# Altium integrated library Diode - Rectifier.IntLib: 777 symbols (part 4 of 12)
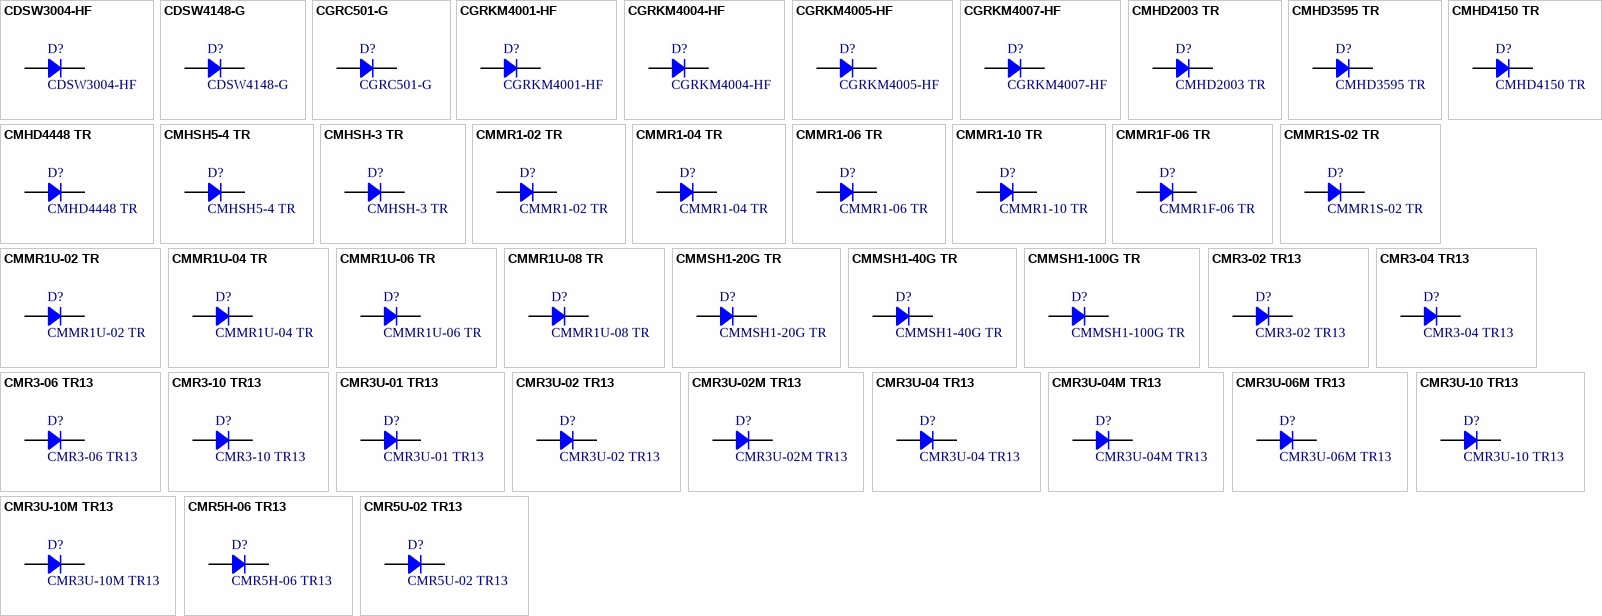
[diagram p22: symbols CDSW3004-HF to CMR5U-02 TR13]

## CMR3U-04M TR13
designator D?
DIODE GEN PURP 400V 3A SMC; Manufacturer: Central Semiconductor Corp; Type: Standard; Current Reverse Leakage @ Vr: 5uA @ 400V; Reverse Recovery Time (trr): 50ns; Voltage Forward (Vf): 1.25V @ 3A; Part Number: CMR3U-04M TR13; PartId: 27872; Supplier 1: Digi-Key; Supplier Part Number 1: CMR3U-04M TR13CT-ND; ComponentLink1Description: Datasheet; ComponentLink1URL: https://www.centralsemi.com/get_document.php?cmp=1&mergetype=pd&mergepath=pd&pdf_id=CMR3U-01M-10M.PDF; ComponentLink2Description: Digi-Key Listing; ComponentLink2URL: https://www.digikey.com/product-detail/en/central-semiconductor-corp/CMR3U-04M-TR13/CMR3U-04M-TR13CT-ND/5324535; Junction Operating Temperature: -65C ~ 175C; Price: 0.92; Device Package: DO-214AB, SMC; Voltage DC Reverse (Vr): 400V; Current Rectified: 3A
footprint ST DO214AB SMC
pins: 1, 2

## CMR3U-06M TR13
designator D?
DIODE GEN PURP 600V 3A SMC; Manufacturer: Central Semiconductor Corp; Type: Standard; Current Reverse Leakage @ Vr: 5uA @ 600V; Reverse Recovery Time (trr): 100ns; Voltage Forward (Vf): 1.4V @ 3A; Part Number: CMR3U-06M TR13; PartId: 27875; Supplier 1: Digi-Key; Supplier Part Number 1: CMR3U-06M TR13CT-ND; ComponentLink1Description: Datasheet; ComponentLink1URL: https://www.centralsemi.com/get_document.php?cmp=1&mergetype=pd&mergepath=pd&pdf_id=CMR3U-01M-10M.PDF; ComponentLink2Description: Digi-Key Listing; ComponentLink2URL: https://www.digikey.com/product-detail/en/central-semiconductor-corp/CMR3U-06M-TR13/CMR3U-06M-TR13CT-ND/5324536; Junction Operating Temperature: -65C ~ 175C; Price: 0.96; Device Package: DO-214AB, SMC; Voltage DC Reverse (Vr): 600V; Current Rectified: 3A
footprint ST DO214AB SMC
pins: 1, 2

## CMR3U-10 TR13
designator D?
DIODE GEN PURP 1000V 3A SMC; Manufacturer: Central Semiconductor Corp; Type: Standard; Current Reverse Leakage @ Vr: 5uA @ 1000V; Reverse Recovery Time (trr): 100ns; Voltage DC Reverse (Vr): 1000V (1kV); Voltage Forward (Vf): 1.7V @ 3A; Part Number: CMR3U-10 TR13; PartId: 27884; Supplier 1: Digi-Key; Supplier Part Number 1: CMR3U-10 TR13CT-ND; ComponentLink1Description: Datasheet; ComponentLink1URL: https://www.centralsemi.com/get_document.php?cmp=1&mergetype=pd&mergepath=pd&pdf_id=CMR3U-01.PDF; ComponentLink2Description: Digi-Key Listing; ComponentLink2URL: https://www.digikey.com/product-detail/en/central-semiconductor-corp/CMR3U-10-TR13/CMR3U-10-TR13CT-ND/5324537; Junction Operating Temperature: -65C ~ 175C; Price: 1.61; Device Package: DO-214AB, SMC; Current Rectified: 3A
footprint ST DO214AB SMC
pins: 1, 2

## CMR3U-10M TR13
designator D?
DIODE GEN PURP 1000V 3A SMC; Manufacturer: Central Semiconductor Corp; Type: Standard; Current Reverse Leakage @ Vr: 5uA @ 1000V; Reverse Recovery Time (trr): 100ns; Voltage DC Reverse (Vr): 1000V (1kV); Voltage Forward (Vf): 2V @ 3A; Part Number: CMR3U-10M TR13; PartId: 27888; Supplier 1: Digi-Key; Supplier Part Number 1: CMR3U-10M TR13CT-ND; ComponentLink1Description: Datasheet; ComponentLink1URL: https://www.centralsemi.com/get_document.php?cmp=1&mergetype=pd&mergepath=pd&pdf_id=CMR3U-01M-10M.PDF; ComponentLink2Description: Digi-Key Listing; ComponentLink2URL: https://www.digikey.com/product-detail/en/central-semiconductor-corp/CMR3U-10M-TR13/CMR3U-10M-TR13CT-ND/5324538; Junction Operating Temperature: -65C ~ 175C; Price: 1.93; Device Package: DO-214AB, SMC; Current Rectified: 3A
footprint ST DO214AB SMC
pins: 1, 2

## CMR5H-06 TR13
designator D?
DIODE HYPERFAST 600V 5A SMC; Manufacturer: Central Semiconductor Corp; Type: Standard; Current Reverse Leakage @ Vr: 1uA @ 600V; Reverse Recovery Time (trr): 22ns; Voltage Forward (Vf): 1.7V @ 5A; Part Number: CMR5H-06 TR13; PartId: 27877; Supplier 1: Digi-Key; Supplier Part Number 1: CMR5H-06 CT-ND; ComponentLink1Description: Datasheet; ComponentLink1URL: https://www.centralsemi.com/get_document.php?cmp=1&mergetype=pd&mergepath=pd&pdf_id=CMR5H-06.PDF; ComponentLink2Description: Digi-Key Listing; ComponentLink2URL: https://www.digikey.com/product-detail/en/central-semiconductor-corp/CMR5H-06-TR13/CMR5H-06-CT-ND/5018687; Junction Operating Temperature: -65C ~ 175C; Price: 1.03; Device Package: DO-214AB, SMC; Voltage DC Reverse (Vr): 600V; Current Rectified: 5A
footprint ST DO214AB SMC
pins: 1, 2

## CMR5U-02 TR13
designator D?
DIODE GEN PURP 600V 5A SMC; Manufacturer: Central Semiconductor Corp; Type: Standard; Current Reverse Leakage @ Vr: 1uA @ 600V; Reverse Recovery Time (trr): 22ns; Voltage Forward (Vf): 1.7V @ 5A; Part Number: CMR5U-02 TR13; PartId: 27881; Supplier 1: Digi-Key; Supplier Part Number 1: CMR5U-02 CT-ND; ComponentLink1Description: Datasheet; ComponentLink1URL: https://www.centralsemi.com/get_document.php?cmp=1&mergetype=pd&mergepath=pd&pdf_id=CMR5U-02-08.PDF; ComponentLink2Description: Digi-Key Listing; ComponentLink2URL: https://www.digikey.com/product-detail/en/central-semiconductor-corp/CMR5U-02-TR13/CMR5U-02-CT-ND/5018688; Junction Operating Temperature: -65C ~ 175C; Price: 1.15; Device Package: DO-214AB, SMC; Voltage DC Reverse (Vr): 600V; Current Rectified: 5A
footprint ST DO214AB SMC
pins: 1, 2

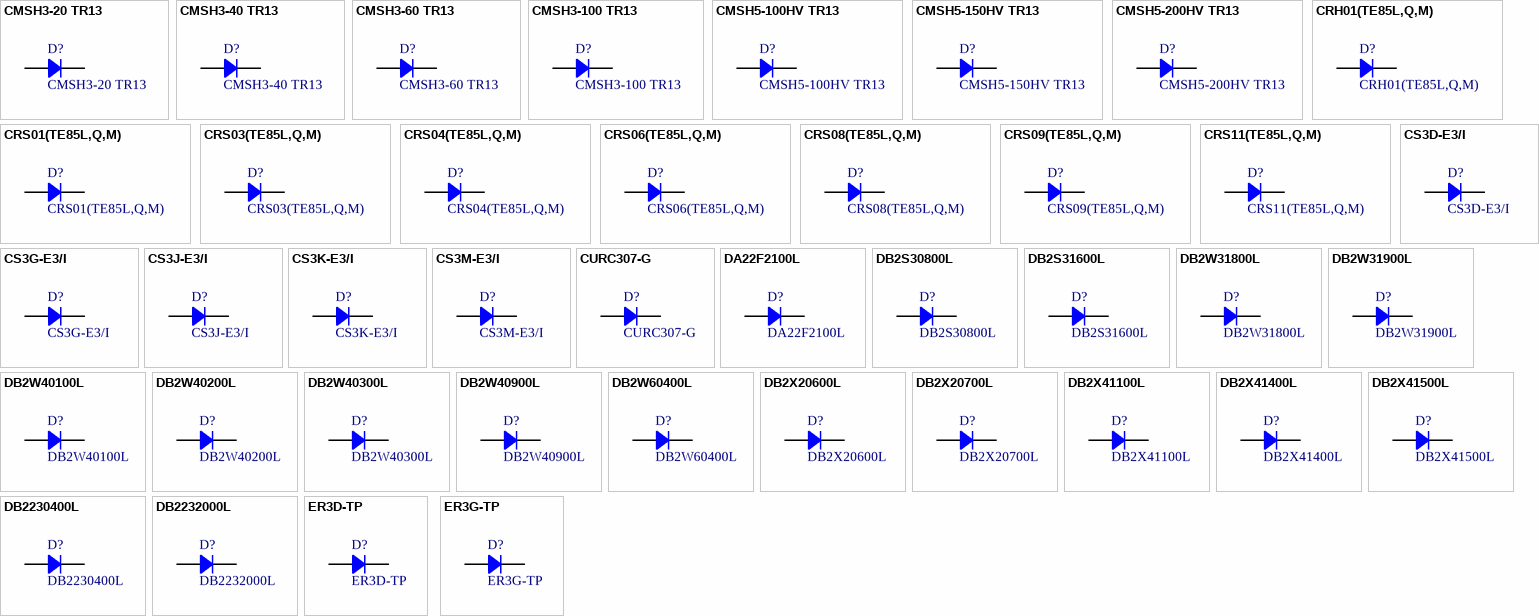
[diagram p5: symbols CMSH3-20 TR13 to ER3G-TP]

## CMSH3-20 TR13
designator D?
DIODE SCHOTTKY 20V 3A SMC; Manufacturer: Central Semiconductor Corp; Current Reverse Leakage @ Vr: 500uA @ 20V; Voltage Forward (Vf): 500mV @ 3A; Part Number: CMSH3-20 TR13; PartId: 27857; Supplier 1: Digi-Key; Supplier Part Number 1: CMSH3-20 TR13CT-ND; ComponentLink1Description: Datasheet; ComponentLink1URL: https://www.centralsemi.com/get_document.php?cmp=1&mergetype=pd&mergepath=pd&pdf_id=CMSH3-20.PDF; ComponentLink2Description: Digi-Key Listing; ComponentLink2URL: https://www.digikey.com/product-detail/en/central-semiconductor-corp/CMSH3-20-TR13/CMSH3-20-TR13CT-ND/5324550; Junction Operating Temperature: -65C ~ 150C; Price: 0.68; Type: Schottky; Device Package: DO-214AB, SMC; Voltage DC Reverse (Vr): 20V; Current Rectified: 3A
footprint ST DO214AB SMC
pins: 1, 2

## CMSH3-40 TR13
designator D?
DIODE SCHOTTKY 40V 3A SMC; Manufacturer: Central Semiconductor Corp; Current Reverse Leakage @ Vr: 500uA @ 40V; Voltage Forward (Vf): 500mV @ 3A; Part Number: CMSH3-40 TR13; PartId: 27790; Supplier 1: Digi-Key; Supplier Part Number 1: CMSH3-40 CT-ND; ComponentLink1Description: Datasheet; ComponentLink1URL: https://www.centralsemi.com/get_document.php?cmp=1&mergetype=pd&mergepath=pd&pdf_id=CMSH3-20.PDF; ComponentLink2Description: Digi-Key Listing; ComponentLink2URL: https://www.digikey.com/product-detail/en/central-semiconductor-corp/CMSH3-40-TR13/CMSH3-40-CT-ND/4807120; Junction Operating Temperature: -65C ~ 150C; Price: 1.02; Type: Schottky; Device Package: DO-214AB, SMC; Voltage DC Reverse (Vr): 40V; Current Rectified: 3A
footprint ST DO214AB SMC
pins: 1, 2

## CMSH3-60 TR13
designator D?
DIODE SCHOTTKY 60V 3A SMC; Manufacturer: Central Semiconductor Corp; Current Reverse Leakage @ Vr: 500uA @ 60V; Voltage Forward (Vf): 700mV @ 3A; Part Number: CMSH3-60 TR13; PartId: 27878; Supplier 1: Digi-Key; Supplier Part Number 1: CMSH3-60 TR13CT-ND; ComponentLink1Description: Datasheet; ComponentLink1URL: https://www.centralsemi.com/get_document.php?cmp=1&mergetype=pd&mergepath=pd&pdf_id=CMSH3-20.PDF; ComponentLink2Description: Digi-Key Listing; ComponentLink2URL: https://www.digikey.com/product-detail/en/central-semiconductor-corp/CMSH3-60-TR13/CMSH3-60-TR13CT-ND/5324553; Junction Operating Temperature: -65C ~ 150C; Price: 1.07; Type: Schottky; Device Package: DO-214AB, SMC; Voltage DC Reverse (Vr): 60V; Current Rectified: 3A
footprint ST DO214AB SMC
pins: 1, 2

## CMSH3-100 TR13
designator D?
DIODE SCHOTTKY 100V 3A SMC; Manufacturer: Central Semiconductor Corp; Current Reverse Leakage @ Vr: 500uA @ 100V; Voltage Forward (Vf): 800mV @ 2A; Part Number: CMSH3-100 TR13; PartId: 27799; Supplier 1: Digi-Key; Supplier Part Number 1: CMSH3-100 TR13CT-ND; ComponentLink1Description: Datasheet; ComponentLink1URL: https://www.centralsemi.com/get_document.php?cmp=1&mergetype=pd&mergepath=pd&pdf_id=CMSH3-20.PDF; ComponentLink2Description: Digi-Key Listing; ComponentLink2URL: https://www.digikey.com/product-detail/en/central-semiconductor-corp/CMSH3-100-TR13/CMSH3-100-TR13CT-ND/5324548; Junction Operating Temperature: -65C ~ 150C; Price: 1.2; Type: Schottky; Device Package: DO-214AB, SMC; Voltage DC Reverse (Vr): 100V; Current Rectified: 3A
footprint ST DO214AB SMC
pins: 1, 2

## CMSH5-100HV TR13
designator D?
DIODE SCHOTTKY 100V 5A SMC; Manufacturer: Central Semiconductor Corp; Current Reverse Leakage @ Vr: 50uA @ 100V; Voltage Forward (Vf): 800mV @ 5A; Part Number: CMSH5-100HV TR13; PartId: 27761; Supplier 1: Digi-Key; Supplier Part Number 1: CMSH5-100HV CT-ND; ComponentLink1Description: Datasheet; ComponentLink1URL: https://www.centralsemi.com/get_document.php?cmp=1&mergetype=pd&mergepath=pd&pdf_id=CMSH5-100HV_SERIES.PDF; ComponentLink2Description: Digi-Key Listing; ComponentLink2URL: https://www.digikey.com/product-detail/en/central-semiconductor-corp/CMSH5-100HV-TR13/CMSH5-100HV-CT-ND/4807122; Junction Operating Temperature: -65C ~ 175C; Price: 1.1; Type: Schottky; Device Package: DO-214AB, SMC; Voltage DC Reverse (Vr): 100V; Current Rectified: 5A
footprint ST DO214AB SMC
pins: 1, 2

## CMSH5-150HV TR13
designator D?
DIODE SCHOTTKY 150V 5A SMC; Manufacturer: Central Semiconductor Corp; Current Reverse Leakage @ Vr: 50uA @ 150V; Voltage Forward (Vf): 800mV @ 5A; Part Number: CMSH5-150HV TR13; PartId: 27762; Supplier 1: Digi-Key; Supplier Part Number 1: CMSH5-150HV CT-ND; ComponentLink1Description: Datasheet; ComponentLink1URL: https://www.centralsemi.com/get_document.php?cmp=1&mergetype=pd&mergepath=pd&pdf_id=CMSH5-100HV_SERIES.PDF; ComponentLink2Description: Digi-Key Listing; ComponentLink2URL: https://www.digikey.com/product-detail/en/central-semiconductor-corp/CMSH5-150HV-TR13/CMSH5-150HV-CT-ND/4807123; Junction Operating Temperature: -60C ~ 175C; Price: 1.23; Type: Schottky; Device Package: DO-214AB, SMC; Voltage DC Reverse (Vr): 150V; Current Rectified: 5A
footprint ST DO214AB SMC
pins: 1, 2

## CMSH5-200HV TR13
designator D?
DIODE SCHOTTKY 200V 5A SMC; Manufacturer: Central Semiconductor Corp; Current Reverse Leakage @ Vr: 50uA @ 200V; Voltage Forward (Vf): 900mV @ 5A; Part Number: CMSH5-200HV TR13; PartId: 27791; Supplier 1: Digi-Key; Supplier Part Number 1: CMSH5-200HV CT-ND; ComponentLink1Description: Datasheet; ComponentLink1URL: https://www.centralsemi.com/get_document.php?cmp=1&mergetype=pd&mergepath=pd&pdf_id=CMSH5-100HV_SERIES.PDF; ComponentLink2Description: Digi-Key Listing; ComponentLink2URL: https://www.digikey.com/product-detail/en/central-semiconductor-corp/CMSH5-200HV-TR13/CMSH5-200HV-CT-ND/4807124; Junction Operating Temperature: -60C ~ 175C; Price: 1.37; Type: Schottky; Device Package: DO-214AB, SMC; Voltage DC Reverse (Vr): 200V; Current Rectified: 5A
footprint ST DO214AB SMC
pins: 1, 2

## CRH01(TE85L,Q,M)
designator D?
DIODE GEN PURP 200V 1A SFLAT; Manufacturer: Toshiba Semiconductor and Storage; Type: Standard; Current Reverse Leakage @ Vr: 10uA @ 200V; Reverse Recovery Time (trr): 35ns; Voltage Forward (Vf): 980mV @ 1A; Part Number: CRH01(TE85L,Q,M); PartId: 29177; Supplier 1: Digi-Key; Supplier Part Number 1: CRH01QCT-ND; ComponentLink1Description: Datasheet; ComponentLink1URL: http://toshiba.semicon-storage.com/info/docget.jsp?did=3154&prodName=CRH01; ComponentLink2Description: Digi-Key Listing; ComponentLink2URL: https://www.digikey.com/product-detail/en/toshiba-semiconductor-and-storage/CRH01(TE85L,Q,M)/CRH01QCT-ND/871548; Junction Operating Temperature: -40C ~ 150C; Price: 0.58; Device Package: SOD-123F; Voltage DC Reverse (Vr): 200V; Current Rectified: 1A
footprint SOD123F
pins: 1, 2

## CRS01(TE85L,Q,M)
designator D?
DIODE SCHOTTKY 30V 1A SFLAT; Manufacturer: Toshiba Semiconductor and Storage; Current Reverse Leakage @ Vr: 1.5mA @ 30V; Voltage Forward (Vf): 360mV @ 1A; Part Number: CRS01(TE85L,Q,M); PartId: 29170; Supplier 1: Digi-Key; Supplier Part Number 1: CRS01QCT-ND; ComponentLink1Description: Datasheet; ComponentLink1URL: http://toshiba.semicon-storage.com/info/docget.jsp?did=3157&prodName=CRS01; ComponentLink2Description: Digi-Key Listing; ComponentLink2URL: https://www.digikey.com/product-detail/en/toshiba-semiconductor-and-storage/CRS01(TE85L,Q,M)/CRS01QCT-ND/871551; Junction Operating Temperature: -40C ~ 125C; Price: 0.44; Type: Schottky; Device Package: SOD-123F; Voltage DC Reverse (Vr): 30V; Current Rectified: 1A
footprint SOD123F
pins: 1, 2

## CRS03(TE85L,Q,M)
designator D?
DIODE SCHOTTKY 30V 1A SFLAT; Manufacturer: Toshiba Semiconductor and Storage; Current Reverse Leakage @ Vr: 100uA @ 30V; Voltage Forward (Vf): 450mV @ 1A; Part Number: CRS03(TE85L,Q,M); PartId: 29214; Supplier 1: Digi-Key; Supplier Part Number 1: CRS03QCT-ND; ComponentLink1Description: Datasheet; ComponentLink1URL: http://toshiba.semicon-storage.com/info/docget.jsp?did=3159&prodName=CRS03; ComponentLink2Description: Digi-Key Listing; ComponentLink2URL: https://www.digikey.com/product-detail/en/toshiba-semiconductor-and-storage/CRS03(TE85L,Q,M)/CRS03QCT-ND/871555; Junction Operating Temperature: -40C ~ 150C; Price: 0.44; Type: Schottky; Device Package: SOD-123F; Voltage DC Reverse (Vr): 30V; Current Rectified: 1A
footprint SOD123F
pins: 1, 2

## CRS04(TE85L,Q,M)
designator D?
DIODE SCHOTTKY 40V 1A SFLAT; Manufacturer: Toshiba Semiconductor and Storage; Current Reverse Leakage @ Vr: 100uA @ 40V; Voltage Forward (Vf): 510mV @ 1A; Part Number: CRS04(TE85L,Q,M); PartId: 29174; Supplier 1: Digi-Key; Supplier Part Number 1: CRS04QCT-ND; ComponentLink1Description: Datasheet; ComponentLink1URL: https://toshiba.semicon-storage.com/info/docget.jsp?did=3161&prodName=CRS04; ComponentLink2Description: Digi-Key Listing; ComponentLink2URL: https://www.digikey.com/product-detail/en/toshiba-semiconductor-and-storage/CRS04(TE85L,Q,M)/CRS04QCT-ND/871556; Junction Operating Temperature: -40C ~ 150C; Price: 0.52; Type: Schottky; Device Package: SOD-123F; Voltage DC Reverse (Vr): 40V; Current Rectified: 1A
footprint SOD123F
pins: 1, 2

## CRS06(TE85L,Q,M)
designator D?
DIODE SCHOTTKY 20V 1A SFLAT; Manufacturer: Toshiba Semiconductor and Storage; Current Reverse Leakage @ Vr: 1mA @ 20V; Voltage Forward (Vf): 360mV @ 1A; Part Number: CRS06(TE85L,Q,M); PartId: 29220; Supplier 1: Digi-Key; Supplier Part Number 1: CRS06QMCT-ND; ComponentLink1Description: Datasheet; ComponentLink1URL: http://toshiba.semicon-storage.com/info/docget.jsp?did=3165&prodName=CRS06; ComponentLink2Description: Digi-Key Listing; ComponentLink2URL: https://www.digikey.com/product-detail/en/toshiba-semiconductor-and-storage/CRS06(TE85L,Q,M)/CRS06QMCT-ND/871561; Junction Operating Temperature: -40C ~ 125C; Price: 0.52; Type: Schottky; Device Package: SOD-123F; Voltage DC Reverse (Vr): 20V; Current Rectified: 1A
footprint SOD123F
pins: 1, 2

## CRS08(TE85L,Q,M)
designator D?
DIODE SCHOTTKY 30V 1.5A SFLAT; Manufacturer: Toshiba Semiconductor and Storage; Current Reverse Leakage @ Vr: 1mA @ 30V; Voltage Forward (Vf): 360mV @ 1.5A; Part Number: CRS08(TE85L,Q,M); PartId: 29176; Supplier 1: Digi-Key; Supplier Part Number 1: CRS08QMCT-ND; ComponentLink1Description: Datasheet; ComponentLink1URL: http://toshiba.semicon-storage.com/info/docget.jsp?did=3168&prodName=CRS08; ComponentLink2Description: Digi-Key Listing; ComponentLink2URL: https://www.digikey.com/product-detail/en/toshiba-semiconductor-and-storage/CRS08(TE85L,Q,M)/CRS08QMCT-ND/871562; Junction Operating Temperature: -40C ~ 125C; Price: 0.58; Type: Schottky; Device Package: SOD-123F; Voltage DC Reverse (Vr): 30V; Current Rectified: 1.5A
footprint SOD123F
pins: 1, 2

## CRS09(TE85L,Q,M)
designator D?
DIODE SCHOTTKY 30V 1.5A SFLAT; Manufacturer: Toshiba Semiconductor and Storage; Current Reverse Leakage @ Vr: 50uA @ 30V; Voltage Forward (Vf): 460mV @ 1.5A; Part Number: CRS09(TE85L,Q,M); PartId: 29223; Supplier 1: Digi-Key; Supplier Part Number 1: CRS09QCT-ND; ComponentLink1Description: Datasheet; ComponentLink1URL: http://toshiba.semicon-storage.com/info/docget.jsp?did=3170&prodName=CRS09; ComponentLink2Description: Digi-Key Listing; ComponentLink2URL: https://www.digikey.com/product-detail/en/toshiba-semiconductor-and-storage/CRS09(TE85L,Q,M)/CRS09QCT-ND/871564; Junction Operating Temperature: -40C ~ 150C; Price: 0.56; Type: Schottky; Device Package: SOD-123F; Voltage DC Reverse (Vr): 30V; Current Rectified: 1.5A
footprint SOD123F
pins: 1, 2

## CRS11(TE85L,Q,M)
designator D?
DIODE SCHOTTKY 30V 1A SFLAT; Manufacturer: Toshiba Semiconductor and Storage; Current Reverse Leakage @ Vr: 1.5mA @ 30V; Voltage Forward (Vf): 360mV @ 1A; Part Number: CRS11(TE85L,Q,M); PartId: 29235; Supplier 1: Digi-Key; Supplier Part Number 1: CRS11(TE85LQM)CT-ND; ComponentLink1Description: Datasheet; ComponentLink1URL: http://toshiba.semicon-storage.com/info/docget.jsp?did=3172&prodName=CRS11; ComponentLink2Description: Digi-Key Listing; ComponentLink2URL: https://www.digikey.com/product-detail/en/toshiba-semiconductor-and-storage/CRS11(TE85L,Q,M)/CRS11(TE85LQM)CT-ND/871566; Junction Operating Temperature: -40C ~ 125C; Price: 0.54; Type: Schottky; Device Package: SOD-123F; Voltage DC Reverse (Vr): 30V; Current Rectified: 1A
footprint SOD123F
pins: 1, 2

## CS3D-E3/I
designator D?
DIODE GPP 200V 2A  DO-214AB SMC; Manufacturer: Vishay Semiconductor Diodes Division; Type: Standard; Current Reverse Leakage @ Vr: 5uA @ 200V; Reverse Recovery Time (trr): 2.8us; Voltage Forward (Vf): 1.15V @ 3A; Part Number: CS3D-E3/I; PartId: 27894; Supplier 1: Digi-Key; Supplier Part Number 1: CS3D-E3/IGICT-ND; ComponentLink1Description: Datasheet; ComponentLink1URL: http://www.vishay.com/docs/87637/cs3dgjkm.pdf; ComponentLink2Description: Digi-Key Listing; ComponentLink2URL: https://www.digikey.com/product-detail/en/vishay-semiconductor-diodes-division/CS3D-E3-I/CS3D-E3-IGICT-ND/6125619; Junction Operating Temperature: -55C ~ 150C; Price: 0.36; Device Package: DO-214AB, SMC; Voltage DC Reverse (Vr): 200V; Current Rectified: 2A
footprint ST DO214AB SMC
pins: 1, 2

## CS3G-E3/I
designator D?
DIODE GPP 400V 3.0A DO-214AB; Manufacturer: Vishay Semiconductor Diodes Division; Type: Standard; Current Reverse Leakage @ Vr: 5uA @ 400V; Reverse Recovery Time (trr): 2.8us; Current Rectified: 2A; Voltage Forward (Vf): 1.15V @ 3A; Part Number: CS3G-E3/I; PartId: 27893; Supplier 1: Digi-Key; Supplier Part Number 1: CS3G-E3/IGICT-ND; ComponentLink1Description: Datasheet; ComponentLink1URL: http://www.vishay.com/docs/87637/cs3dgjkm.pdf; ComponentLink2Description: Digi-Key Listing; ComponentLink2URL: https://www.digikey.com/product-detail/en/vishay-semiconductor-diodes-division/CS3G-E3-I/CS3G-E3-IGICT-ND/6051792; Junction Operating Temperature: -55C ~ 150C; Price: 0.36; Device Package: DO-214AB, SMC; Voltage DC Reverse (Vr): 400V
footprint ST DO214AB SMC
pins: 1, 2

## CS3J-E3/I
designator D?
DIODE GPP 600V 3.0A DO-214AB; Manufacturer: Vishay Semiconductor Diodes Division; Type: Standard; Current Reverse Leakage @ Vr: 5uA @ 600V; Reverse Recovery Time (trr): 2.8us; Current Rectified: 2A; Voltage Forward (Vf): 1.15V @ 3A; Part Number: CS3J-E3/I; PartId: 27892; Supplier 1: Digi-Key; Supplier Part Number 1: CS3J-E3/IGICT-ND; ComponentLink1Description: Datasheet; ComponentLink1URL: http://www.vishay.com/docs/87637/cs3dgjkm.pdf; ComponentLink2Description: Digi-Key Listing; ComponentLink2URL: https://www.digikey.com/product-detail/en/vishay-semiconductor-diodes-division/CS3J-E3-I/CS3J-E3-IGICT-ND/6051793; Junction Operating Temperature: -55C ~ 150C; Price: 0.36; Device Package: DO-214AB, SMC; Voltage DC Reverse (Vr): 600V
footprint ST DO214AB SMC
pins: 1, 2

## CS3K-E3/I
designator D?
DIODE GPP 800V 2A  DO-214AB SMC; Manufacturer: Vishay Semiconductor Diodes Division; Type: Standard; Current Reverse Leakage @ Vr: 5uA @ 800V; Reverse Recovery Time (trr): 2.8us; Voltage Forward (Vf): 1.15V @ 3A; Part Number: CS3K-E3/I; PartId: 27896; Supplier 1: Digi-Key; Supplier Part Number 1: CS3K-E3/IGICT-ND; ComponentLink1Description: Datasheet; ComponentLink1URL: http://www.vishay.com/docs/87637/cs3dgjkm.pdf; ComponentLink2Description: Digi-Key Listing; ComponentLink2URL: https://www.digikey.com/product-detail/en/vishay-semiconductor-diodes-division/CS3K-E3-I/CS3K-E3-IGICT-ND/6125620; Junction Operating Temperature: -55C ~ 150C; Price: 0.39; Device Package: DO-214AB, SMC; Voltage DC Reverse (Vr): 800V; Current Rectified: 2A
footprint ST DO214AB SMC
pins: 1, 2

## CS3M-E3/I
designator D?
DIODE GPP 1000V 3.0A DO-214AB; Manufacturer: Vishay Semiconductor Diodes Division; Type: Standard; Current Reverse Leakage @ Vr: 5uA @ 1000V; Reverse Recovery Time (trr): 2.8us; Voltage DC Reverse (Vr): 1000V (1kV); Current Rectified: 2A; Voltage Forward (Vf): 1.15V @ 3A; Part Number: CS3M-E3/I; PartId: 27895; Supplier 1: Digi-Key; Supplier Part Number 1: CS3M-E3/IGICT-ND; ComponentLink1Description: Datasheet; ComponentLink1URL: http://www.vishay.com/docs/87637/cs3dgjkm.pdf; ComponentLink2Description: Digi-Key Listing; ComponentLink2URL: https://www.digikey.com/product-detail/en/vishay-semiconductor-diodes-division/CS3M-E3-I/CS3M-E3-IGICT-ND/6051794; Junction Operating Temperature: -55C ~ 150C; Price: 0.39; Device Package: DO-214AB, SMC
footprint ST DO214AB SMC
pins: 1, 2

## CURC307-G
designator D?
DIODE GEN PURP 1KV 3A DO214AB; Manufacturer: Comchip Technology; Type: Standard; Current Reverse Leakage @ Vr: 5uA @ 1000V; Reverse Recovery Time (trr): 75ns; Voltage DC Reverse (Vr): 1000V (1kV); Voltage Forward (Vf): 1.7V @ 3A; Part Number: CURC307-G; PartId: 27729; Supplier 1: Digi-Key; Supplier Part Number 1: 641-1194-1-ND; ComponentLink1Description: Datasheet; ComponentLink1URL: http://www.comchiptech.com/cms/UserFiles/CURC301-G%20Thur.%20CURC307-G%20RevB.pdf; ComponentLink2Description: Digi-Key Listing; ComponentLink2URL: https://www.digikey.com/product-detail/en/comchip-technology/CURC307-G/641-1194-1-ND/1559155; Junction Operating Temperature: 150C (Max); Price: 0.54; Device Package: DO-214AB, SMC; Current Rectified: 3A
footprint ST DO214AB SMC
pins: 1, 2

## DA22F2100L
designator D?
DIODE GEN PURP 200V 1A MINI2; Manufacturer: Panasonic Electronic Components; Type: Standard; Current Reverse Leakage @ Vr: 10uA @ 200V; Reverse Recovery Time (trr): 35ns; Current Rectified: 1A (DC); Voltage Forward (Vf): 980mV @ 1A; Part Number: DA22F2100L; PartId: 29219; Supplier 1: Digi-Key; Supplier Part Number 1: DA22F2100LCT-ND; ComponentLink1Description: Datasheet; ComponentLink1URL: http://www.semicon.panasonic.co.jp/ds4/DA22F21_E.pdf; ComponentLink2Description: Digi-Key Listing; ComponentLink2URL: https://www.digikey.com/product-detail/en/panasonic-electronic-components/DA22F2100L/DA22F2100LCT-ND/2658952; Junction Operating Temperature: -40C ~ 150C; Price: 0.48; Device Package: SOD-123F; Voltage DC Reverse (Vr): 200V
footprint SOD123F
pins: 1, 2

## DB2S30800L
designator D?
DIODE SCHOTTKY 30V 100MA SSMINI2; Manufacturer: Panasonic Electronic Components; Type: Surface Mount; Current Reverse Leakage @ Vr: 120uA @ 30V; Reverse Recovery Time (trr): 1.3ns; Voltage Forward (Vf): 420mV @ 100mA; Part Number: DB2S30800L; PartId: 7156; Supplier 1: Digi-Key; Supplier Part Number 1: DB2S30800LTR-ND; ComponentLink1Description: Datasheet; ComponentLink1URL: http://industrial.panasonic.com/www-cgi/jvcr13pz.cgi?E+SC+4+BFA7001+DB2S308+8+WW; ComponentLink2Description: Digi-Key Listing; ComponentLink2URL: http://www.digikey.ca/product-detail/en/DB2S30800L/DB2S30800LTR-ND/2325946; Junction Operating Temperature: 125C (Max); Price: 0.0547; Device Package: SC-79, SOD-523; Voltage DC Reverse (Vr): 30V; Current Rectified: 100mA
footprint SOD523F
pins: 1, 2

## DB2S31600L
designator D?
DIODE SCHOTTKY 30V 100MA SSMINI2; Manufacturer: Panasonic Electronic Components; Type: Surface Mount; Current Reverse Leakage @ Vr: 15uA @ 30V; Reverse Recovery Time (trr): 800ps; Voltage Forward (Vf): 550mV @ 100mA; Part Number: DB2S31600L; PartId: 7154; Supplier 1: Digi-Key; Supplier Part Number 1: DB2S31600LTR-ND; ComponentLink1Description: Datasheet; ComponentLink1URL: http://industrial.panasonic.com/www-cgi/jvcr13pz.cgi?E+SC+4+BFA7001+DB2S316+8+WW; ComponentLink2Description: Digi-Key Listing; ComponentLink2URL: http://www.digikey.ca/product-detail/en/DB2S31600L/DB2S31600LTR-ND/2325950; Junction Operating Temperature: 125C (Max); Price: 0.0541; Device Package: SC-79, SOD-523; Voltage DC Reverse (Vr): 30V; Current Rectified: 100mA
footprint SOD523F
pins: 1, 2

## DB2W31800L
designator D?
DIODE GEN PURP 30V 2A MINI2; Manufacturer: Panasonic Electronic Components; Type: Standard; Current Reverse Leakage @ Vr: 200uA @ 30V; Reverse Recovery Time (trr): 23ns; Voltage Forward (Vf): 430mV @ 2A; Part Number: DB2W31800L; PartId: 29216; Supplier 1: Digi-Key; Supplier Part Number 1: DB2W31800LCT-ND; ComponentLink1Description: Datasheet; ComponentLink1URL: http://www.semicon.panasonic.co.jp/ds4/DB2W318_E.pdf; ComponentLink2Description: Digi-Key Listing; ComponentLink2URL: https://www.digikey.com/product-detail/en/panasonic-electronic-components/DB2W31800L/DB2W31800LCT-ND/3884373; Junction Operating Temperature: 125C (Max); Price: 0.46; Device Package: SOD-123F; Voltage DC Reverse (Vr): 30V; Current Rectified: 2A
footprint SOD123F
pins: 1, 2

## DB2W31900L
designator D?
DIODE SCHOTTKY 30V 3A MINI2; Manufacturer: Panasonic Electronic Components; Current Reverse Leakage @ Vr: 200uA @ 30V; Reverse Recovery Time (trr): 23ns; Voltage Forward (Vf): 490mV @ 3A; Part Number: DB2W31900L; PartId: 29175; Supplier 1: Digi-Key; Supplier Part Number 1: DB2W31900LCT-ND; ComponentLink1Description: Datasheet; ComponentLink1URL: http://www.semicon.panasonic.co.jp/ds4/DB2W319_E.pdf; ComponentLink2Description: Digi-Key Listing; ComponentLink2URL: https://www.digikey.com/product-detail/en/panasonic-electronic-components/DB2W31900L/DB2W31900LCT-ND/2704454; Junction Operating Temperature: 125C (Max); Price: 0.54; Type: Schottky; Device Package: SOD-123F; Voltage DC Reverse (Vr): 30V; Current Rectified: 3A
footprint SOD123F
pins: 1, 2

## DB2W40100L
designator D?
DIODE GEN PURP 40V 1A MINI2; Manufacturer: Panasonic Electronic Components; Type: Standard; Current Reverse Leakage @ Vr: 250uA @ 40V; Reverse Recovery Time (trr): 15ns; Current Rectified: 1A (DC); Voltage Forward (Vf): 390mV @ 1A; Part Number: DB2W40100L; PartId: 29166; Supplier 1: Digi-Key; Supplier Part Number 1: DB2W40100LCT-ND; ComponentLink1Description: Datasheet; ComponentLink1URL: http://www.semicon.panasonic.co.jp/ds4/DB2W401_E.pdf; ComponentLink2Description: Digi-Key Listing; ComponentLink2URL: https://www.digikey.com/product-detail/en/panasonic-electronic-components/DB2W40100L/DB2W40100LCT-ND/3884371; Junction Operating Temperature: 150C (Max); Price: 0.55; Device Package: SOD-123F; Voltage DC Reverse (Vr): 40V
footprint SOD123F
pins: 1, 2

## DB2W40200L
designator D?
DIODE SCHOTTKY 40V 2A MINI2; Manufacturer: Panasonic Electronic Components; Current Reverse Leakage @ Vr: 250uA @ 40V; Reverse Recovery Time (trr): 15ns; Current Rectified: 2A (DC); Voltage Forward (Vf): 470mV @ 2A; Part Number: DB2W40200L; PartId: 29211; Supplier 1: Digi-Key; Supplier Part Number 1: DB2W40200LCT-ND; ComponentLink1Description: Datasheet; ComponentLink1URL: http://www.semicon.panasonic.co.jp/ds4/DB2W402_E.pdf; ComponentLink2Description: Digi-Key Listing; ComponentLink2URL: https://www.digikey.com/product-detail/en/panasonic-electronic-components/DB2W40200L/DB2W40200LCT-ND/3884368; Junction Operating Temperature: 150C (Max); Price: 0.55; Type: Schottky; Device Package: SOD-123F; Voltage DC Reverse (Vr): 40V
footprint SOD123F
pins: 1, 2

## DB2W40300L
designator D?
DIODE SCHOTTKY 40V 3A MINI2; Manufacturer: Panasonic Electronic Components; Current Reverse Leakage @ Vr: 250uA @ 40V; Reverse Recovery Time (trr): 15ns; Current Rectified: 3A (DC); Voltage Forward (Vf): 540mV @ 3A; Part Number: DB2W40300L; PartId: 29167; Supplier 1: Digi-Key; Supplier Part Number 1: DB2W40300LCT-ND; ComponentLink1Description: Datasheet; ComponentLink1URL: http://www.semicon.panasonic.co.jp/ds4/DB2W403_E.pdf; ComponentLink2Description: Digi-Key Listing; ComponentLink2URL: https://www.digikey.com/product-detail/en/panasonic-electronic-components/DB2W40300L/DB2W40300LCT-ND/3884376; Junction Operating Temperature: 150C (Max); Price: 0.55; Type: Schottky; Device Package: SOD-123F; Voltage DC Reverse (Vr): 40V
footprint SOD123F
pins: 1, 2

## DB2W40900L
designator D?
DIODE SCHOTTKY 40V 3A MINI2; Manufacturer: Panasonic Electronic Components; Current Reverse Leakage @ Vr: 200uA @ 40V; Reverse Recovery Time (trr): 25ns; Voltage Forward (Vf): 550mV @ 3A; Part Number: DB2W40900L; PartId: 29221; Supplier 1: Digi-Key; Supplier Part Number 1: DB2W40900LCT-ND; ComponentLink1Description: Datasheet; ComponentLink1URL: http://www.semicon.panasonic.co.jp/ds4/DB2W409_E.pdf; ComponentLink2Description: Digi-Key Listing; ComponentLink2URL: https://www.digikey.com/product-detail/en/panasonic-electronic-components/DB2W40900L/DB2W40900LCT-ND/2626215; Junction Operating Temperature: 150C (Max); Price: 0.54; Type: Schottky; Device Package: SOD-123F; Voltage DC Reverse (Vr): 40V; Current Rectified: 3A
footprint SOD123F
pins: 1, 2

## DB2W60400L
designator D?
DIODE SCHOTTKY 60V 2A MINI2; Manufacturer: Panasonic Electronic Components; Current Reverse Leakage @ Vr: 300uA @ 60V; Reverse Recovery Time (trr): 12ns; Voltage Forward (Vf): 660mV @ 2A; Part Number: DB2W60400L; PartId: 29172; Supplier 1: Digi-Key; Supplier Part Number 1: P15184CT-ND; ComponentLink1Description: Datasheet; ComponentLink1URL: http://www.semicon.panasonic.co.jp/ds4/DB2W604_E.pdf; ComponentLink2Description: Digi-Key Listing; ComponentLink2URL: https://www.digikey.com/product-detail/en/panasonic-electronic-components/DB2W60400L/P15184CT-ND/2804811; Junction Operating Temperature: 150C (Max); Price: 0.49; Type: Schottky; Device Package: SOD-123F; Voltage DC Reverse (Vr): 60V; Current Rectified: 2A
footprint SOD123F
pins: 1, 2

## DB2X20600L
designator D?
DIODE SCHOTTKY 20V 1A MINI2; Manufacturer: Panasonic Electronic Components; Current Reverse Leakage @ Vr: 100uA @ 20V; Reverse Recovery Time (trr): 6ns; Voltage Forward (Vf): 450mV @ 1A; Part Number: DB2X20600L; PartId: 29201; Supplier 1: Digi-Key; Supplier Part Number 1: DB2X20600LCT-ND; ComponentLink1Description: Datasheet; ComponentLink1URL: http://www.semicon.panasonic.co.jp/ds4/DB2X206_E.pdf; ComponentLink2Description: Digi-Key Listing; ComponentLink2URL: https://www.digikey.com/product-detail/en/panasonic-electronic-components/DB2X20600L/DB2X20600LCT-ND/2626210; Junction Operating Temperature: 125C (Max); Price: 0.48; Type: Schottky; Device Package: SOD-123F; Voltage DC Reverse (Vr): 20V; Current Rectified: 1A
footprint SOD123F
pins: 1, 2

## DB2X20700L
designator D?
DIODE SCHOTTKY 20V 1A MINI2; Manufacturer: Panasonic Electronic Components; Current Reverse Leakage @ Vr: 1.5mA @ 6V; Reverse Recovery Time (trr): 12ns; Voltage Forward (Vf): 400mV @ 1A; Part Number: DB2X20700L; PartId: 29232; Supplier 1: Digi-Key; Supplier Part Number 1: DB2X20700LCT-ND; ComponentLink1Description: Datasheet; ComponentLink1URL: http://www.semicon.panasonic.co.jp/ds4/DB2X207_E.pdf; ComponentLink2Description: Digi-Key Listing; ComponentLink2URL: https://www.digikey.com/product-detail/en/panasonic-electronic-components/DB2X20700L/DB2X20700LCT-ND/3884372; Junction Operating Temperature: 125C (Max); Price: 0.5; Type: Schottky; Device Package: SOD-123F; Voltage DC Reverse (Vr): 20V; Current Rectified: 1A
footprint SOD123F
pins: 1, 2

## DB2X41100L
designator D?
DIODE SCHOTTKY 40V 1A MINI2; Manufacturer: Panasonic Electronic Components; Current Reverse Leakage @ Vr: 100uA @ 40V; Reverse Recovery Time (trr): 6.8ns; Voltage Forward (Vf): 580mV @ 1A; Part Number: DB2X41100L; PartId: 29195; Supplier 1: Digi-Key; Supplier Part Number 1: DB2X41100LCT-ND; ComponentLink1Description: Datasheet; ComponentLink1URL: http://www.semicon.panasonic.co.jp/ds4/DB2X411_E.pdf; ComponentLink2Description: Digi-Key Listing; ComponentLink2URL: https://www.digikey.com/product-detail/en/panasonic-electronic-components/DB2X41100L/DB2X41100LCT-ND/3884387; Junction Operating Temperature: 150C (Max); Price: 0.44; Type: Schottky; Device Package: SOD-123F; Voltage DC Reverse (Vr): 40V; Current Rectified: 1A
footprint SOD123F
pins: 1, 2

## DB2X41400L
designator D?
DIODE SCHOTTKY 40V 2A MINI2; Manufacturer: Panasonic Electronic Components; Current Reverse Leakage @ Vr: 200uA @ 40V; Reverse Recovery Time (trr): 30ns; Voltage Forward (Vf): 490mV @ 2A; Part Number: DB2X41400L; PartId: 29338; Supplier 1: Digi-Key; Supplier Part Number 1: DB2X41400LCT-ND; ComponentLink1Description: Datasheet; ComponentLink1URL: http://www.semicon.panasonic.co.jp/ds4/DB2X414_E.pdf; ComponentLink2Description: Digi-Key Listing; ComponentLink2URL: https://www.digikey.com/product-detail/en/panasonic-electronic-components/DB2X41400L/DB2X41400LCT-ND/2658956; Junction Operating Temperature: 125C (Max); Price: 0.5; Type: Schottky; Device Package: SOD-123F; Voltage DC Reverse (Vr): 40V; Current Rectified: 2A
footprint SOD123F
pins: 1, 2

## DB2X41500L
designator D?
DIODE SCHOTTKY 40V 3A MINI2; Manufacturer: Panasonic Electronic Components; Current Reverse Leakage @ Vr: 200uA @ 40V; Reverse Recovery Time (trr): 25ns; Voltage Forward (Vf): 550mV @ 3A; Part Number: DB2X41500L; PartId: 29173; Supplier 1: Digi-Key; Supplier Part Number 1: DB2X41500LCT-ND; ComponentLink1Description: Datasheet; ComponentLink1URL: http://www.semicon.panasonic.co.jp/ds4/DB2X415_E.pdf; ComponentLink2Description: Digi-Key Listing; ComponentLink2URL: https://www.digikey.com/product-detail/en/panasonic-electronic-components/DB2X41500L/DB2X41500LCT-ND/2658957; Junction Operating Temperature: 125C (Max); Price: 0.5; Type: Schottky; Device Package: SOD-123F; Voltage DC Reverse (Vr): 40V; Current Rectified: 3A
footprint SOD123F
pins: 1, 2

## DB2230400L
designator D?
DIODE SCHOTTKY 30V 1A MINI2; Manufacturer: Panasonic Electronic Components; Current Reverse Leakage @ Vr: 30uA @ 30V; Reverse Recovery Time (trr): 20ns; Voltage Forward (Vf): 530mV @ 1A; Part Number: DB2230400L; PartId: 29215; Supplier 1: Digi-Key; Supplier Part Number 1: DB2230400LCT-ND; ComponentLink1Description: Datasheet; ComponentLink1URL: http://www.semicon.panasonic.co.jp/ds4/DB22304_E.pdf; ComponentLink2Description: Digi-Key Listing; ComponentLink2URL: https://www.digikey.com/product-detail/en/panasonic-electronic-components/DB2230400L/DB2230400LCT-ND/3884393; Junction Operating Temperature: 150C (Max); Price: 0.4; Type: Schottky; Device Package: SOD-123F; Voltage DC Reverse (Vr): 30V; Current Rectified: 1A
footprint SOD123F
pins: 1, 2

## DB2232000L
designator D?
DIODE SCHOTTKY 30V 1.5A MINI2; Manufacturer: Panasonic Electronic Components; Current Reverse Leakage @ Vr: 100uA @ 30V; Reverse Recovery Time (trr): 16ns; Voltage Forward (Vf): 460mV @ 1.5A; Part Number: DB2232000L; PartId: 29212; Supplier 1: Digi-Key; Supplier Part Number 1: DB2232000LCT-ND; ComponentLink1Description: Datasheet; ComponentLink1URL: http://www.semicon.panasonic.co.jp/ds4/DB22320_E.pdf; ComponentLink2Description: Digi-Key Listing; ComponentLink2URL: https://www.digikey.com/product-detail/en/panasonic-electronic-components/DB2232000L/DB2232000LCT-ND/2469121; Junction Operating Temperature: 125C (Max); Price: 0.57; Type: Schottky; Device Package: SOD-123F; Voltage DC Reverse (Vr): 30V; Current Rectified: 1.5A
footprint SOD123F
pins: 1, 2

## ER3D-TP
designator D?
DIODE GEN PURP 200V 3A DO214AB; Manufacturer: Micro Commercial Co; Type: Standard; Current Reverse Leakage @ Vr: 5uA @ 200V; Reverse Recovery Time (trr): 35ns; Voltage Forward (Vf): 950mV @ 3A; Part Number: ER3D-TP; PartId: 27804; Supplier 1: Digi-Key; Supplier Part Number 1: ER3D-TPMSCT-ND; ComponentLink1Description: Datasheet; ComponentLink1URL: http://www.mccsemi.com/up_pdf/ER3A-ER3M(SMC).pdf; ComponentLink2Description: Digi-Key Listing; ComponentLink2URL: https://www.digikey.com/product-detail/en/micro-commercial-co/ER3D-TP/ER3D-TPMSCT-ND/2512840; Junction Operating Temperature: -50C ~ 175C; Price: 0.63; Device Package: DO-214AB, SMC; Voltage DC Reverse (Vr): 200V; Current Rectified: 3A
footprint ST DO214AB SMC
pins: 1, 2

## ER3G-TP
designator D?
DIODE GEN PURP 400V 3A DO214AB; Manufacturer: Micro Commercial Co; Type: Standard; Current Reverse Leakage @ Vr: 5uA @ 400V; Reverse Recovery Time (trr): 35ns; Voltage Forward (Vf): 1.25V @ 3A; Part Number: ER3G-TP; PartId: 27734; Supplier 1: Digi-Key; Supplier Part Number 1: ER3G-TPMSCT-ND; ComponentLink1Description: Datasheet; ComponentLink1URL: http://www.mccsemi.com/up_pdf/ER3A-ER3M(SMC).pdf; ComponentLink2Description: Digi-Key Listing; ComponentLink2URL: https://www.digikey.com/product-detail/en/micro-commercial-co/ER3G-TP/ER3G-TPMSCT-ND/2512841; Junction Operating Temperature: -50C ~ 175C; Price: 0.63; Device Package: DO-214AB, SMC; Voltage DC Reverse (Vr): 400V; Current Rectified: 3A
footprint ST DO214AB SMC
pins: 1, 2

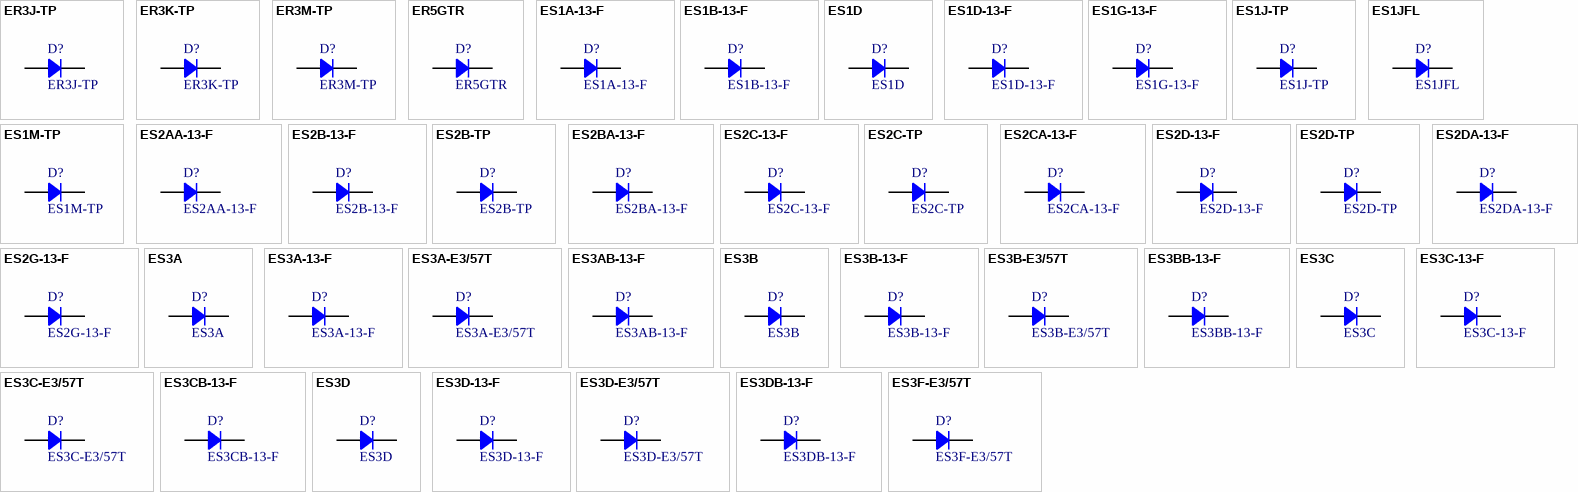
[diagram p6: symbols ER3J-TP to ES3F-E3/57T]

## ER3J-TP
designator D?
DIODE GEN PURP 600V 3A DO214AB; Manufacturer: Micro Commercial Co; Type: Standard; Current Reverse Leakage @ Vr: 5uA @ 600V; Reverse Recovery Time (trr): 35ns; Voltage Forward (Vf): 1.7V @ 3A; Part Number: ER3J-TP; PartId: 27774; Supplier 1: Digi-Key; Supplier Part Number 1: ER3J-TPMSCT-ND; ComponentLink1Description: Datasheet; ComponentLink1URL: http://www.mccsemi.com/up_pdf/ER3A-ER3M(SMC).pdf; ComponentLink2Description: Digi-Key Listing; ComponentLink2URL: https://www.digikey.com/product-detail/en/micro-commercial-co/ER3J-TP/ER3J-TPMSCT-ND/2512842; Junction Operating Temperature: -50C ~ 175C; Price: 0.63; Device Package: DO-214AB, SMC; Voltage DC Reverse (Vr): 600V; Current Rectified: 3A
footprint ST DO214AB SMC
pins: 1, 2

## ER3K-TP
designator D?
DIODE GEN PURP 800V 3A DO214AB; Manufacturer: Micro Commercial Co; Type: Standard; Current Reverse Leakage @ Vr: 5uA @ 800V; Reverse Recovery Time (trr): 75ns; Voltage Forward (Vf): 1.7V @ 3A; Part Number: ER3K-TP; PartId: 27850; Supplier 1: Digi-Key; Supplier Part Number 1: ER3K-TPMSCT-ND; ComponentLink1Description: Datasheet; ComponentLink1URL: http://www.mccsemi.com/up_pdf/ER3A-ER3M(SMC).pdf; ComponentLink2Description: Digi-Key Listing; ComponentLink2URL: https://www.digikey.com/product-detail/en/micro-commercial-co/ER3K-TP/ER3K-TPMSCT-ND/4936178; Junction Operating Temperature: -55C ~ 175C; Price: 0.63; Device Package: DO-214AB, SMC; Voltage DC Reverse (Vr): 800V; Current Rectified: 3A
footprint ST DO214AB SMC
pins: 1, 2

## ER3M-TP
designator D?
DIODE GEN PURP 1KV 3A DO214AB; Manufacturer: Micro Commercial Co; Type: Standard; Current Reverse Leakage @ Vr: 5uA @ 1000V; Reverse Recovery Time (trr): 75ns; Voltage DC Reverse (Vr): 1000V (1kV); Voltage Forward (Vf): 1.7V @ 3A; Part Number: ER3M-TP; PartId: 27775; Supplier 1: Digi-Key; Supplier Part Number 1: ER3M-TPMSCT-ND; ComponentLink1Description: Datasheet; ComponentLink1URL: http://www.mccsemi.com/up_pdf/ER3A-ER3M(SMC).pdf; ComponentLink2Description: Digi-Key Listing; ComponentLink2URL: https://www.digikey.com/product-detail/en/micro-commercial-co/ER3M-TP/ER3M-TPMSCT-ND/3191610; Junction Operating Temperature: -50C ~ 175C; Price: 0.63; Device Package: DO-214AB, SMC; Current Rectified: 3A
footprint ST DO214AB SMC
pins: 1, 2

## ER5GTR
designator D?
DIODE GEN PURP 400V 5A SMC; Manufacturer: SMC Diode Solutions; Type: Standard; Current Reverse Leakage @ Vr: 5uA @ 400V; Reverse Recovery Time (trr): 35ns; Voltage Forward (Vf): 1.25V @ 5A; Part Number: ER5GTR; PartId: 27833; Supplier 1: Digi-Key; Supplier Part Number 1: 1655-1423-1-ND; ComponentLink1Description: Datasheet; ComponentLink1URL: http://www.smc-diodes.com/propdf/ER5(A-J)%20N0994%20REV.-.pdf; ComponentLink2Description: Digi-Key Listing; ComponentLink2URL: https://www.digikey.com/product-detail/en/smc-diode-solutions/ER5GTR/1655-1423-1-ND/6022868; Junction Operating Temperature: -55C ~ 150C; Price: 0.51; Device Package: DO-214AB, SMC; Voltage DC Reverse (Vr): 400V; Current Rectified: 5A
footprint ST DO214AB SMC
pins: 1, 2

## ES1A-13-F
designator D?
DIODE GEN PURP 50V 1A SMA; Manufacturer: Diodes Incorporated; Type: Standard; Current Reverse Leakage @ Vr: 5uA @ 50V; Reverse Recovery Time (trr): 25ns; Voltage Forward (Vf): 920mV @ 1A; Part Number: ES1A-13-F; PartId: 16331; Supplier 1: Digi-Key; Supplier Part Number 1: ES1A-FDITR-ND; ComponentLink1Description: Datasheet; ComponentLink1URL: http://www.diodes.com/_files/datasheets/ds14001.pdf; ComponentLink2Description: Digi-Key Listing; ComponentLink2URL: https://www.digikey.com/product-detail/en/diodes-incorporated/ES1A-13-F/ES1A-FDITR-ND/717765; Junction Operating Temperature: -55C ~ 150C; Price: 0.0935; Device Package: DO-214AC, SMA; Voltage DC Reverse (Vr): 50V; Current Rectified: 1A
footprint DO214AC SMA
pins: 1, 2

## ES1B-13-F
designator D?
DIODE GEN PURP 100V 1A SMA; Manufacturer: Diodes Incorporated; Type: Standard; Current Reverse Leakage @ Vr: 5uA @ 100V; Reverse Recovery Time (trr): 25ns; Voltage Forward (Vf): 920mV @ 1A; Part Number: ES1B-13-F; PartId: 16328; Supplier 1: Digi-Key; Supplier Part Number 1: ES1B-FDITR-ND; ComponentLink1Description: Datasheet; ComponentLink1URL: http://www.diodes.com/_files/datasheets/ds14001.pdf; ComponentLink2Description: Digi-Key Listing; ComponentLink2URL: https://www.digikey.com/product-detail/en/diodes-incorporated/ES1B-13-F/ES1B-FDITR-ND/753475; Junction Operating Temperature: -55C ~ 150C; Price: 0.0935; Device Package: DO-214AC, SMA; Voltage DC Reverse (Vr): 100V; Current Rectified: 1A
footprint DO214AC SMA
pins: 1, 2

## ES1D
designator D?
DIODE GEN PURP 200V 1A SMA; Manufacturer: Fairchild Semiconductor; Type: Surface Mount; Current Reverse Leakage @ Vr: 5uA @ 200V; Reverse Recovery Time (trr): 15ns; Voltage Forward (Vf): 920mV @ 1A; Part Number: ES1D; PartId: 7138; Supplier 1: Digi-Key; Supplier Part Number 1: ES1DFSTR-ND; ComponentLink1Description: Datasheet; ComponentLink1URL: http://www.fairchildsemi.com/datasheets/ES/ES1A.pdf; ComponentLink2Description: Digi-Key Listing; ComponentLink2URL: http://www.digikey.ca/product-detail/en/ES1D/ES1DFSTR-ND/458837; Junction Operating Temperature: -55C ~ 150C; Price: 0.0813; Device Package: DO-214AC, SMA; Voltage DC Reverse (Vr): 200V; Current Rectified: 1A
footprint DO214AC SMA
pins: 1, 2

## ES1D-13-F
designator D?
DIODE GEN PURP 200V 1A SMA; Manufacturer: Diodes Incorporated; Type: Standard; Current Reverse Leakage @ Vr: 5uA @ 200V; Reverse Recovery Time (trr): 25ns; Voltage Forward (Vf): 920mV @ 1A; Part Number: ES1D-13-F; PartId: 16332; Supplier 1: Digi-Key; Supplier Part Number 1: ES1D-FDITR-ND; ComponentLink1Description: Datasheet; ComponentLink1URL: http://www.diodes.com/_files/datasheets/ds14001.pdf; ComponentLink2Description: Digi-Key Listing; ComponentLink2URL: https://www.digikey.com/product-detail/en/diodes-incorporated/ES1D-13-F/ES1D-FDITR-ND/768873; Junction Operating Temperature: -55C ~ 150C; Price: 0.0935; Device Package: DO-214AC, SMA; Voltage DC Reverse (Vr): 200V; Current Rectified: 1A
footprint DO214AC SMA
pins: 1, 2

## ES1G-13-F
designator D?
DIODE GEN PURP 400V 1A SMA; Manufacturer: Diodes Incorporated; Type: Standard; Current Reverse Leakage @ Vr: 5uA @ 400V; Reverse Recovery Time (trr): 25ns; Voltage Forward (Vf): 1.25V @ 1A; Part Number: ES1G-13-F; PartId: 16336; Supplier 1: Digi-Key; Supplier Part Number 1: ES1G-FDITR-ND; ComponentLink1Description: Datasheet; ComponentLink1URL: http://www.diodes.com/_files/datasheets/ds14001.pdf; ComponentLink2Description: Digi-Key Listing; ComponentLink2URL: https://www.digikey.com/product-detail/en/diodes-incorporated/ES1G-13-F/ES1G-FDITR-ND/1099120; Junction Operating Temperature: -55C ~ 150C; Price: 0.1162; Device Package: DO-214AC, SMA; Voltage DC Reverse (Vr): 400V; Current Rectified: 1A
footprint DO214AC SMA
pins: 1, 2

## ES1J-TP
designator D?
DIODE GEN PURP 600V 1A DO214AC; Manufacturer: Micro Commercial Co; Type: Standard; Current Reverse Leakage @ Vr: 5uA @ 600V; Reverse Recovery Time (trr): 75ns; Voltage Forward (Vf): 1.35V @ 1A; Part Number: ES1J-TP; PartId: 18054; Supplier 1: Digi-Key; Supplier Part Number 1: ES1J-TPTR-ND; ComponentLink1Description: Datasheet; ComponentLink1URL: http://www.mccsemi.com/up_pdf/ES1A-ES1M(HSMA).pdf; ComponentLink2Description: Digi-Key Listing; ComponentLink2URL: https://www.digikey.com/product-detail/en/micro-commercial-co/ES1J-TP/ES1J-TPTR-ND/950422; Junction Operating Temperature: -50C ~ 150C; Price: 0.1218; Device Package: DO-214AC, SMA; Voltage DC Reverse (Vr): 600V; Current Rectified: 1A
footprint ST DO214AC SMA
pins: 1, 2

## ES1JFL
designator D?
DIODE SUPER FAST 600V 1A SOD123F; Manufacturer: Fairchild/ON Semiconductor; Type: Standard; Current Reverse Leakage @ Vr: 500nA @ 600V; Reverse Recovery Time (trr): 35ns; Voltage Forward (Vf): 1.7V @ 1A; Part Number: ES1JFL; PartId: 29261; Supplier 1: Digi-Key; Supplier Part Number 1: ES1JFLCT-ND; ComponentLink1Description: Datasheet; ComponentLink1URL: https://www.fairchildsemi.com/datasheets/ES/ES1JFL.pdf; ComponentLink2Description: Digi-Key Listing; ComponentLink2URL: https://www.digikey.com/product-detail/en/fairchild-on-semiconductor/ES1JFL/ES1JFLCT-ND/5305080; Junction Operating Temperature: -55C ~ 150C; Price: 0.37; Device Package: SOD-123F; Voltage DC Reverse (Vr): 600V; Current Rectified: 1A
footprint SOD123F
pins: 1, 2

## ES1M-TP
designator D?
DIODE GEN PURP 1KV 1A DO214AC; Manufacturer: Micro Commercial Co; Type: Standard; Current Reverse Leakage @ Vr: 5uA @ 1000V; Reverse Recovery Time (trr): 100ns; Voltage DC Reverse (Vr): 1000V (1kV); Voltage Forward (Vf): 1.7V @ 1A; Part Number: ES1M-TP; PartId: 18053; Supplier 1: Digi-Key; Supplier Part Number 1: ES1M-TPTR-ND; ComponentLink1Description: Datasheet; ComponentLink1URL: http://www.mccsemi.com/up_pdf/ES1A-ES1M(HSMA).pdf; ComponentLink2Description: Digi-Key Listing; ComponentLink2URL: https://www.digikey.com/product-detail/en/micro-commercial-co/ES1M-TP/ES1M-TPTR-ND/950424; Junction Operating Temperature: -50C ~ 150C; Price: 0.1218; Device Package: DO-214AC, SMA; Current Rectified: 1A
footprint ST DO214AC SMA
pins: 1, 2

## ES2AA-13-F
designator D?
DIODE GEN PURP 50V 2A SMA; Manufacturer: Diodes Incorporated; Type: Standard; Current Reverse Leakage @ Vr: 5uA @ 50V; Reverse Recovery Time (trr): 25ns; Voltage Forward (Vf): 920mV @ 2A; Part Number: ES2AA-13-F; PartId: 16339; Supplier 1: Digi-Key; Supplier Part Number 1: ES2AA-FDITR-ND; ComponentLink1Description: Datasheet; ComponentLink1URL: http://www.diodes.com/_files/datasheets/ds14002.pdf; ComponentLink2Description: Digi-Key Listing; ComponentLink2URL: https://www.digikey.com/product-detail/en/diodes-incorporated/ES2AA-13-F/ES2AA-FDITR-ND/765412; Junction Operating Temperature: -55C ~ 150C; Price: 0.124; Device Package: DO-214AC, SMA; Voltage DC Reverse (Vr): 50V; Current Rectified: 2A
footprint DO214AC SMA
pins: 1, 2

## ES2B-13-F
designator D?
DIODE GEN PURP 100V 2A SMB; Manufacturer: Diodes Incorporated; Type: Standard; Current Reverse Leakage @ Vr: 5uA @ 100V; Reverse Recovery Time (trr): 25ns; Voltage Forward (Vf): 920mV @ 2A; Part Number: ES2B-13-F; PartId: 16253; Supplier 1: Digi-Key; Supplier Part Number 1: ES2B-FDITR-ND; ComponentLink1Description: Datasheet; ComponentLink1URL: http://www.diodes.com/_files/datasheets/ds14002.pdf; ComponentLink2Description: Digi-Key Listing; ComponentLink2URL: https://www.digikey.com/product-detail/en/diodes-incorporated/ES2B-13-F/ES2B-FDITR-ND/749966; Junction Operating Temperature: -55C ~ 150C; Price: 0.132; Device Package: DO-214AA, SMB; Voltage DC Reverse (Vr): 100V; Current Rectified: 2A
footprint DO214AA SMB
pins: 1, 2

## ES2B-TP
designator D?
DIODE GEN PURP 100V 2A DO214AC; Manufacturer: Micro Commercial Co; Type: Standard; Current Reverse Leakage @ Vr: 5uA @ 100V; Reverse Recovery Time (trr): 50ns; Voltage Forward (Vf): 975mV @ 2A; Part Number: ES2B-TP; PartId: 18060; Supplier 1: Digi-Key; Supplier Part Number 1: ES2B-TPTR-ND; ComponentLink1Description: Datasheet; ComponentLink1URL: http://www.mccsemi.com/up_pdf/ES2A-ES2M(HSMA).pdf; ComponentLink2Description: Digi-Key Listing; ComponentLink2URL: https://www.digikey.com/product-detail/en/micro-commercial-co/ES2B-TP/ES2B-TPTR-ND/1306183; Junction Operating Temperature: -50C ~ 150C; Price: 0.1738; Device Package: DO-214AC, SMA; Voltage DC Reverse (Vr): 100V; Current Rectified: 2A
footprint ST DO214AC SMA
pins: 1, 2

## ES2BA-13-F
designator D?
DIODE GEN PURP 100V 2A SMA; Manufacturer: Diodes Incorporated; Type: Standard; Current Reverse Leakage @ Vr: 5uA @ 100V; Reverse Recovery Time (trr): 25ns; Voltage Forward (Vf): 920mV @ 2A; Part Number: ES2BA-13-F; PartId: 16338; Supplier 1: Digi-Key; Supplier Part Number 1: ES2BA-FDITR-ND; ComponentLink1Description: Datasheet; ComponentLink1URL: http://www.diodes.com/_files/datasheets/ds14002.pdf; ComponentLink2Description: Digi-Key Listing; ComponentLink2URL: https://www.digikey.com/product-detail/en/diodes-incorporated/ES2BA-13-F/ES2BA-FDITR-ND/815078; Junction Operating Temperature: -55C ~ 150C; Price: 0.124; Device Package: DO-214AC, SMA; Voltage DC Reverse (Vr): 100V; Current Rectified: 2A
footprint DO214AC SMA
pins: 1, 2

## ES2C-13-F
designator D?
DIODE GEN PURP 150V 2A SMB; Manufacturer: Diodes Incorporated; Type: Standard; Current Reverse Leakage @ Vr: 5uA @ 150V; Reverse Recovery Time (trr): 25ns; Voltage Forward (Vf): 920mV @ 2A; Part Number: ES2C-13-F; PartId: 16307; Supplier 1: Digi-Key; Supplier Part Number 1: ES2C-FDITR-ND; ComponentLink1Description: Datasheet; ComponentLink1URL: http://www.diodes.com/_files/datasheets/ds14002.pdf; ComponentLink2Description: Digi-Key Listing; ComponentLink2URL: https://www.digikey.com/product-detail/en/diodes-incorporated/ES2C-13-F/ES2C-FDITR-ND/815106; Junction Operating Temperature: -55C ~ 150C; Price: 0.155; Device Package: DO-214AA, SMB; Voltage DC Reverse (Vr): 150V; Current Rectified: 2A
footprint DO214AA SMB
pins: 1, 2